# Altium schematic symbol library Trans_NMOS_STL8DN6LF6AG_1.Schlib: 1 symbol
Pins are listed as number, name and electrical type; pins without a type are passive.

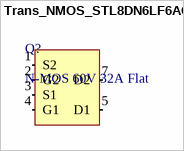
[diagram p0: symbol Trans_NMOS_STL8DN6LF6AG]

## Trans_NMOS_STL8DN6LF6AG
designator Q?, comment N-MOS 60V 32A Flat
ComponentLink1Description: Datasheet; ComponentLink1URL: http://www.st.com/content/ccc/resource/technical/document/datasheet/cc/b3/44/36/72/94/4c/91/DM00208902.pdf/files/DM00208902.pdf/jcr:content/translations/en.DM00208902.pdf
footprint STL8DN6LF6AG_DUAL ISLAND
pins: 1 S2, 2 G2, 3 S1, 4 G1, 5 D1, 7 D2